# Altium footprint library watch.PcbLib: 4 footprints
Each footprint in its own frame and in the unit in brackets; x right, y up, seen from the top. Pads: shape width x height; smd on the part's side, far side on the other; paste and mask are expansions set on the pad; w line width, h text height; cw(c..) or ccw(c..) is an arc to the next point about the centre after c.
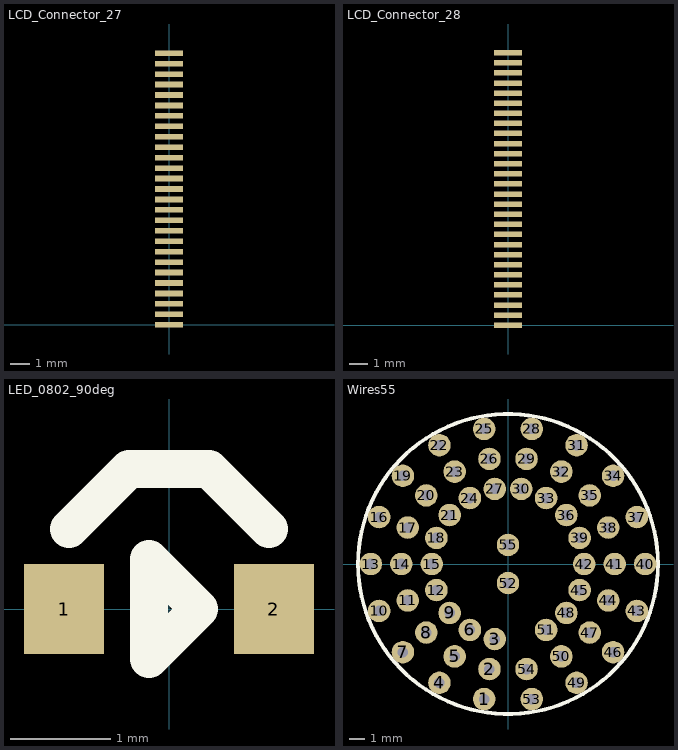
[diagram p0: the footprints below, top view; thin cyan lines are the x and y axes]

## LCD_Connector_27 [mm] "27-pin LCD zebra strip connector, 0.55mm pitch"
pads (27):
  rect 1.5x0.3 smd: 1(0,0) 2(0,0.55) 3(0,1.1) 4(0,1.65) 5(0,2.2) 6(0,2.75) 7(0,3.3) 8(0,3.85) 9(0,4.4) 10(0,4.95) 11(0,5.5) 12(0,6.05) 13(0,6.6) 14(0,7.15) 15(0,7.7) 16(0,8.25) 17(0,8.8) 18(0,9.35) 19(0,9.9) 20(0,10.45) 21(0,11) 22(0,11.55) 23(0,12.1) 24(0,12.65) 25(0,13.2) 26(0,13.75) 27(0,14.3)

## LCD_Connector_28 [mm] "28-pin LCD zebra strip connector, 0.55mm pitch"
pads (28):
  rect 1.5x0.3 smd: 1(0,0) 2(0,0.55) 3(0,1.1) 4(0,1.65) 5(0,2.2) 6(0,2.75) 7(0,3.3) 8(0,3.85) 9(0,4.4) 10(0,4.95) 11(0,5.5) 12(0,6.05) 13(0,6.6) 14(0,7.15) 15(0,7.7) 16(0,8.25) 17(0,8.8) 18(0,9.35) 19(0,9.9) 20(0,10.45) 21(0,11) 22(0,11.55) 23(0,12.1) 24(0,12.65) 25(0,13.2) 26(0,13.75) 27(0,14.3) 28(0,14.85)

## LED_0802_90deg [mm]
height 0.6
pads (2):
  rect 0.8x0.9 smd: 1(-1.05,0) 2(1.05,0)
Top Overlay:
  lines w0.381: -1,0.8 -0.4,1.4 0.4,1.4 1,0.8 ; -0.2,-0.5 -0.2,0.5 0.3,0 -0.2,-0.5

## Wires55 [mm] "20mm diameter connection for 55 pins"
pads (55):
  round 1.5 hole 0.7: 1(-1.588,-9.005) 2(-1.235,-7.004) 3(-0.882,-5.003) 4(-4.572,-7.919) 5(-3.556,-6.159) 6(-2.54,-4.399) 7(-7.005,-5.878) 8(-5.448,-4.572) 9(-3.892,-3.265) 10(-8.593,-3.127) 11(-6.683,-2.432) 12(-4.774,-1.737) 13(-9.144,0) 14(-7.112,0) 15(-5.08,0) 16(-8.593,3.127) 17(-6.683,2.432) 18(-4.774,1.737) 19(-7.005,5.878) 20(-5.448,4.572) 21(-3.892,3.265) 22(-4.572,7.919) 23(-3.556,6.159) 24(-2.54,4.399) 25(-1.588,9.005) 26(-1.235,7.004) 27(-0.882,5.003) 28(1.588,9.005) 29(1.235,7.004) 30(0.882,5.003) 31(4.572,7.919) 32(3.556,6.159) 33(2.54,4.399) 34(7.005,5.878) 35(5.448,4.572) 36(3.892,3.265) 37(8.593,3.127) 38(6.683,2.432) 39(4.774,1.737) 40(9.144,0) 41(7.112,0) 42(5.08,0) 43(8.593,-3.127) 44(6.683,-2.432) 45(4.774,-1.737) 46(7.005,-5.878) 47(5.448,-4.572) 48(3.892,-3.265) 49(4.572,-7.919) 50(3.556,-6.159) 51(2.54,-4.399) 52(0,-1.27) 53(1.588,-9.005) 54(1.235,-7.004) 55(0,1.27)
Top Overlay:
  circle w0.254: c0,0 r10